# Altium schematic symbol library PNM0402E2502BST1.SchLib: 2 symbols
Pins are listed as number, name and electrical type; pins without a type are passive.

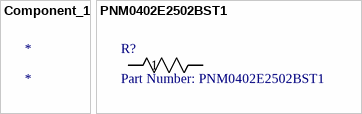
[diagram p0: symbols Component_1 to PNM0402E2502BST1]

## Component_1
designator *

## PNM0402E2502BST1
designator R?, comment Part Number: PNM0402E2502BST1
No Description Available; Vendor: Vishay; Built_By: EMA_UL_Team; Manufacturer_Part_Number: PNM0402E2502BST1; Copyright: Copyright (C) 2018 Accelerated Designs. All rights reserved; RefDes: RefDes; Type: DEV; Value: Value
footprint 0402
pins: 1, 2